# EAGLE library part NC7WZ240 (library 25cmsquare)
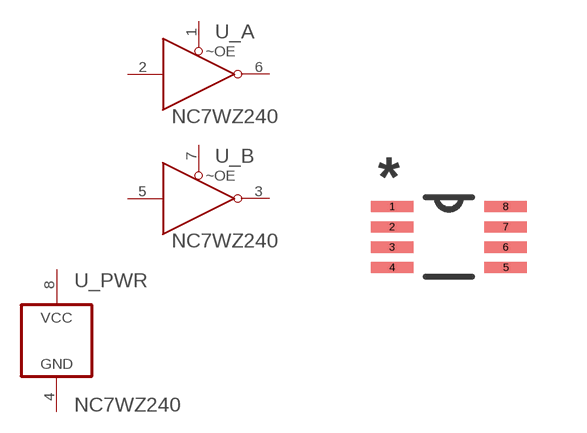
[diagram p15: symbol with the pads of SOP50P310X90-8N; footprint SOP50P310X90-8N]

Designator prefix U; gates _A=NC7WZ240_GATE _B=NC7WZ240_GATE _PWR=NC7WZ240_POWER

## NC7WZ240  [SOP50P310X90-8N]
1  _A:~OE1  in
2  _A:A1  in
3  _B:Y1  out
4  _PWR:GND  pas
5  _B:A1  in
6  _A:Y1  out
7  _B:~OE1  in
8  _PWR:VCC  pwr

## Footprint SOP50P310X90-8N (pad centres in mm)
smd 1.067 x 0.279: 1 -1.422,0.762; 2 -1.422,0.254; 3 -1.422,-0.254; 4 -1.422,-0.762; 5 1.422,-0.762; 6 1.422,-0.254; 7 1.422,0.254; 8 1.422,0.762